# EAGLE library part JST-XH-11 (library con-JST-XH)
JST-XH 4-way vertical TH
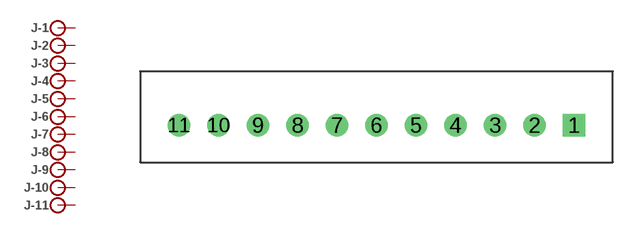
[diagram p4: symbol with the pads of B11B-XH-A; footprint B11B-XH-A]

Designator prefix J; gates -1=PIN -2=PIN -3=PIN -4=PIN -5=PIN -6=PIN -7=PIN -8=PIN -9=PIN -10=PIN -11=PIN

## JST-XH-11 (MF: JST; MPN: B11B-XH-A)  [B11B-XH-A]
1  -1:P
2  -2:P
3  -3:P
4  -4:P
5  -5:P
6  -6:P
7  -7:P
8  -8:P
9  -9:P
10  -10:P
11  -11:P

## Footprint B11B-XH-A (pad centres in mm)
JST-XH (2.5mm) 11-pin through-hole vertical Wire-Board Connector
drill 0.9 square: 1 12.5,0
drill 0.9: 2 10,0; 3 7.5,0; 4 5,0; 5 2.5,0; 6 0,0; 7 -2.5,0; 8 -5,0; 9 -7.5,0; 10 -10,0; 11 -12.5,0